# Altium footprint library TRINKET_PRO.PcbLib: 1 footprints
Each footprint in its own frame and in the unit in brackets; x right, y up, seen from the top. Pads: shape width x height; smd on the part's side, far side on the other; paste and mask are expansions set on the pad; w line width, h text height; cw(c..) or ccw(c..) is an arc to the next point about the centre after c.
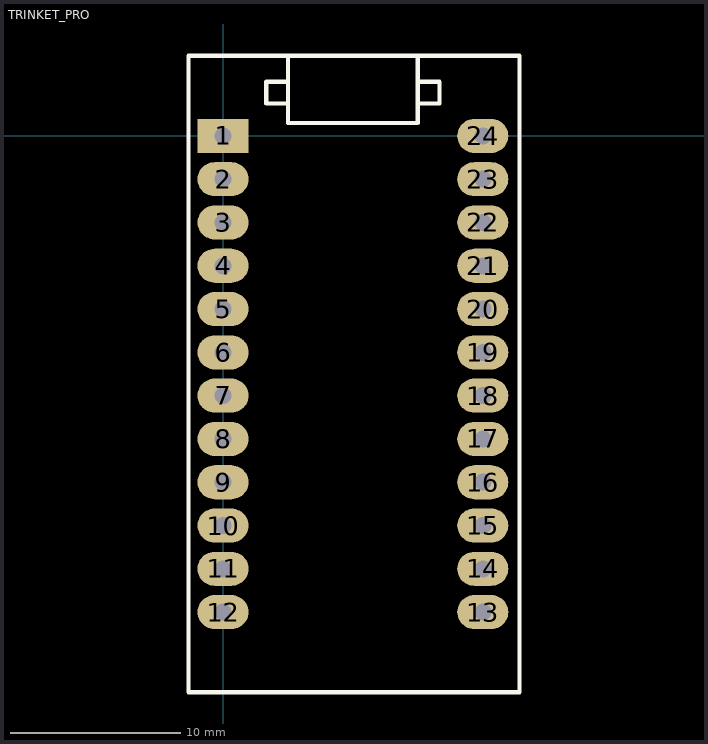
[diagram p0: the footprint, top view; thin cyan lines are the x and y axes]

## TRINKET_PRO [mm]
pads (24):
  rect 3x2 hole 1: 1(0,0)
  oval 3x2 hole 1: 2(0,-2.54) 3(0,-5.08) 4(0,-7.62) 5(0,-10.16) 6(0,-12.7) 7(0,-15.24) 8(0,-17.78) 9(0,-20.32) 10(0,-22.86) 11(0,-25.4) 12(0,-27.94) 13(15.24,-27.94) 14(15.24,-25.4) 15(15.24,-22.86) 16(15.24,-20.32) 17(15.24,-17.78) 18(15.24,-15.24) 19(15.24,-12.7) 20(15.24,-10.16) 21(15.24,-7.62) 22(15.24,-5.08) 23(15.24,-2.54) 24(15.24,0)
Top Overlay:
  lines w0.254: 3.81,1.905 2.54,1.905 2.54,3.175 3.81,3.175 ; 3.81,4.699 3.81,0.762 11.43,0.762 11.43,4.699 ; 11.43,1.905 12.7,1.905 12.7,3.175 11.43,3.175 ; -2.032,-32.639 17.399,-32.639 17.399,4.699 -2.032,4.699 -2.032,-32.639